# EAGLE library part CONN,RJ45_WITH_MAGNETICS_LEDS#1 (library QuantumOptics)
RJ-45 with built-in magnetics and LEDs, such as Pulse J00-0014NL45NL/61NL/65NL.
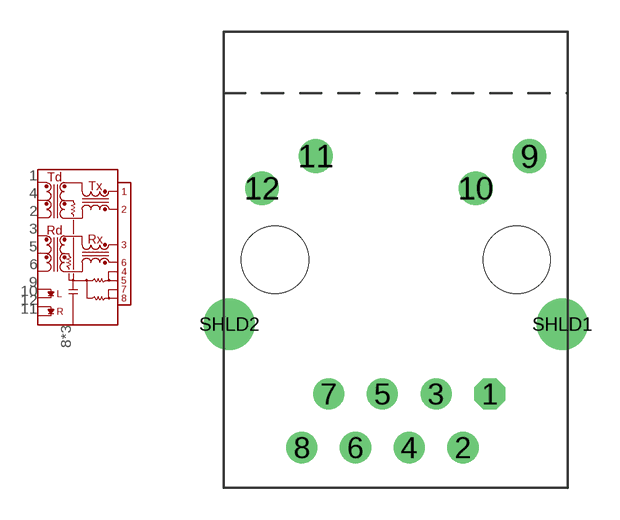
[diagram p182: symbol with the pads of CONN,RJ45_WITH_MAGNETICS_LEDS#1; footprint CONN,RJ45_WITH_MAGNETICS_LEDS#1]

Designator prefix P

## CONN,RJ45_WITH_MAGNETICS_LEDS#1-PULSE_J00-00  [CONN,RJ45_WITH_MAGNETICS_LEDS#1]
1  TD+
2  TD-
3  RD+
4  TDCT
5  RDCT
6  RD-
8  SHLD
9  LED-LA
10  LED-LC
11  LED-RC
12  LED-RA
SHLD1  SHLD
SHLD2  SHLD

## Footprint CONN,RJ45_WITH_MAGNETICS_LEDS#1 (pad centres in mm)
RJ-45 with built-in magnetics and LEDs, such as Pulse J00-0014NL45NL/61NL/65NL.
drill 0.965 octagon: 1 4.445,0
drill 0.965: 2 3.175,-2.54; 3 1.905,0; 4 0.635,-2.54; 5 -0.635,0; 6 -1.905,-2.54; 7 -3.175,0; 8 -4.445,-2.54
drill 1.067: 9 6.325,11.252; 10 3.785,9.728; 11 -3.785,11.252; 12 -6.325,9.728
drill 1.613: SHLD1 7.874,3.302; SHLD2 -7.874,3.302
hole 3.175 at 5.715,6.35
hole 3.175 at -5.715,6.35